# Altium schematic symbol library AD8033.SchLib: 1 symbol
Pins are listed as number, name and electrical type; pins without a type are passive.

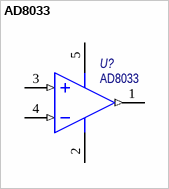
[diagram p0: symbol AD8033]

## AD8033
designator U?
Low Cost, 80 MHz / FastFET Op Amps / Low offset voltage: 1 mV typical / Single-supply and rail-to-rail output; Назначение: Precision, Low Noise, CMOS, Rail-to-Rail,; Потребление, Вт: 0,005; ComponentLink2Description: Datasheet; ComponentLink2URL: https://www.analog.com/media/en/technical-documentation/data-sheets/AD8605_8606_8608.pdf; Datasheet: https://www.analog.com/media/en/technical-documentation/data-sheets/AD8033_8034.pdf; Наименование: AD8033
footprint SOT23-5
pins: 1 OUT (out), 2 -V (power), 3 +IN (in), 4 -IN  (in), 5 +V (power)